# Altium integrated library Amplificador PH.IntLib: 27 symbols
Pins are listed as number, name and electrical type; pins without a type are passive.

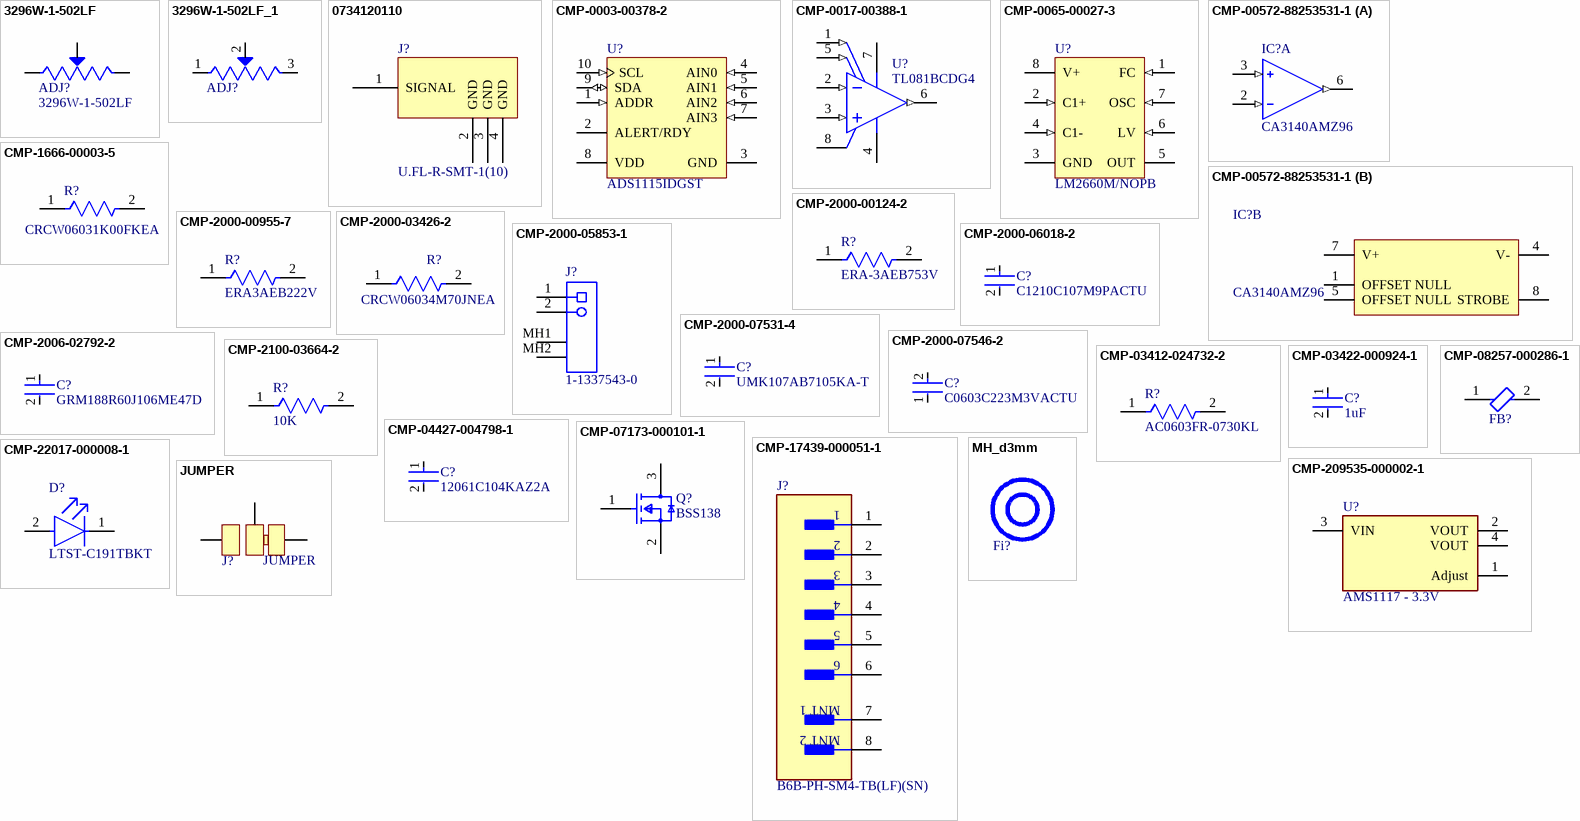
[diagram p0: symbols 3296W-1-502LF to MH_d3mm]

## 3296W-1-502LF
designator ADJ?
5 kOhms 0.5W, 1/2W PC Pins Through Hole Trimmer Potentiometer Cermet 25.0 Turn Top Adjustment; MF: Bourns; Value: 5k; SnapEDA_Link: https://www.snapeda.com/parts/3296W-1-502LF/Bourns/view-part/?ref=snap; MP: 3296W-1-502LF; Price: None; Package: SOT-23-5 Bourns; Check_prices: https://www.snapeda.com/parts/3296W-1-502LF/Bourns/view-part/?ref=eda; Purchase-URL: https://pricing.snapeda.com/search/part/3296W-1-502LF/?ref=eda; Availability: In Stock; ComponentLink1Description: MOUSER; ComponentLink1URL: https://co.mouser.com/ProductDetail/Bourns/3296W-1-502LF?qs=zl1BDXJPZVrTnesl5BcuCQ%3D%3D; Supplier 1: Digikey; Supplier Part Number 1: 3296W-502LF-ND; LCSC Part Number: C60620
footprint TRIM_3296W-1-502LF
pins: 1 CCW, 2 WIPER, 3 CW

## 3296W-1-502LF_1
designator ADJ?
100 kOhms 0.5W, 1/2W PC Pins Through Hole Trimmer Potentiometer Cermet 25.0 Turn Top Adjustment; MF: Bourns; MP: 3296W-1-502LF; Value: 100k; SnapEDA_Link: https://www.snapeda.com/parts/3296W-1-502LF/Bourns/view-part/?ref=snap; Price: None; Package: SOT-23-5 Bourns; Check_prices: https://www.snapeda.com/parts/3296W-1-502LF/Bourns/view-part/?ref=eda; Purchase-URL: https://pricing.snapeda.com/search/part/3296W-1-502LF/?ref=eda; Availability: In Stock; ComponentLink1Description: MOUSER; ComponentLink1URL: https://co.mouser.com/ProductDetail/Bourns/3296W-1-104ALF?qs=PYWKc%252BkzmhnUybN0QggnnQ%3D%3D; Supplier 1: Digikey; Supplier Part Number 1: 3296W-502LF-ND; LCSC Part Number: C48084
footprint TRIM_3296W-1-502LF
pins: 1 CCW, 2 WIPER, 3 CW

## 0734120110
designator J?, comment U.FL-R-SMT-1(10)
CONN UMC RCPT STR 50 OHM SMD; Manufacturer: Molex, LLC; Manufacturer Part Number: 0734120110; Connector Style: Ultra Miniature Coaxial; Connector Type: Receptacle, Male Pin; Contact Termination: Solder; Impedance: 50 Ohm; Body Material: Phosphor Bronze; Body Finish: Nickel; Center Contact Plating: Gold; Dielectric Material: Liquid Crystal Polymer (LCP); Center Contact Material: Brass; Mating Cycles: 30; Supplier 1: Digi-Key; RoHS: RoHS Compliant; Category: Connectors, Interconnects; Stock 1: 48500; Pricing 1: 1=0.73, 10=0.688, 25=0.6188, 50=0.5502, 100=0.5273, 250=0.4814, 500=0.45848, 1000=0.37825, 2500=0.34386 (USD); Packaging: Cut Tape (CT); Part Status: Active; Shield Termination: Solder; Mounting Type: Surface Mount; Mounting Feature: -; Cable Group: -; Fastening Type: Snap-On; Features: -; Housing Color: Silver; Ingress Protection: -; Includes: -; Operating Temperature: -40°C ~ 90°C; Insertion Loss: -; ComponentLink1URL: http://www.molex.com/pdm_docs/sd/734120110_sd.pdf; ComponentLink1Description: http://www.molex.com/pdm_docs/sd/734120110_sd.pdf; Supplier Part Number 1: WM5587CT-ND; LCSC Part Number: C88374
footprint 0734120110
footprint 0734120110
pins: 1 SIGNAL, 2 GND, 3 GND, 4 GND

## CMP-0003-00378-2
designator U?, comment ADS1115IDGST
16-Bit ADC with Integrated Multiplexer, PGA, Comparator, Oscillator, and Reference, -40 to 125 degC, 10-pin SOP (DGS10), Green (RoHS & no Sb/Br); Manufacturer: Texas Instruments; Sample Rate (max)(SPS): 860; SubFamily: Precision ADC (<=10MSPS); Architecture: Delta-Sigma; Digital Supply(Min)(V): 2; Resolution(Bits): 16; Digital Supply(Max)(V): 5.5; INL(Max)(+/-LSB): 1; Interface: Serial I2C; # Input Channels: 4; Eco-Plan: Green (RoHS & no Sb/Br); PackageDescription: 10-Pin Plastic Small Outline, Body 3 x 3 mm, Pitch 0.5 mm; Mounting Technology: Surface Mount; PackageReference: DGS10; DatasheetVersion: SBAS444B; ComponentLink3Description: Package Specification; ComponentLink1Description: Manufacturer URL; PartNumber: ADS1115IDGST; ComponentLink3URL: http://www.ti.com/lit/ml/mpds035b/mpds035b.pdf; ComponentLink2URL: http://www.ti.com/general/docs/lit/getliterature.tsp?genericPartNumber=ADS1115&fileType=pdf; Analog Voltage AV/DD(Min)(V): 2; ComponentLink2Description: Datasheet; PackageVersion: 4073272/C, 02/2004; Analog Voltage AV/DD(Max)(V): 5.5; Code_JEDEC: MO-153; ComponentLink1URL: http://www.ti.com/; ComponentLink4Description: MOUSER; ComponentLink4URL: https://co.mouser.com/ProductDetail/Texas-Instruments/ADS1115IDGST?qs=6805eV47HhY3JIwOhQ2zog%3D%3D; LCSC Part Number: C37593
footprint TI-DGS10_M (SOP, 10-Leads, Body 3x3mm, Pitch 0.5mm, IPC Low Density)
footprint TI-DGS10_N (SOP, 10-Leads, Body 3x3mm, Pitch 0.5mm, IPC Medium Density)
footprint TI-DGS10_L (SOP, 10-Leads, Body 3x3mm, Pitch 0.5mm, IPC High Density)
pins: 1 ADDR (in) "I2C slave address select", 2 ALERT/RDY (oc) "Digital comparator output or conversion ready", 3 GND (power) "Ground", 4 AIN0 (in) "Differential channel 1: Positive input or single-ended channel 1 input", 5 AIN1 (in) "Differential channel 1: Negative input or single-ended channel 2 input", 6 AIN2 (in) "Differential channel 2: Positive input or single-ended channel 3 input", 7 AIN3 (in) "Differential channel 2: Negative input or single-ended channel 4 input", 8 VDD (power) "Power supply: 2.0V to 5.5V", 9 SDA (io) "Serial data: Transmits and receives data", 10 SCL (in) "Serial clock input: Clocks data on SDA"

## CMP-0017-00388-1
designator U?, comment TL081BCDG4
JFET-Input Operational Amplifier, 7 to 36 V, 0 to 70 degC, 8-pin SOIC (D8), Green (RoHS & no Sb/Br); Manufacturer: Texas Instruments; GBW(Typ)(MHz): 3; Offset Drift(Typ)(uV/C): 18; Total Supply Voltage(Max)(+5V is 5, +/-5V is 10): 36; Slew Rate(Typ)(V/us): 13; CMRR(Min)(dB): 75; Sub Family: General Purpose Amplifier, High Supply Voltage Amplifier (>=30V); Iq per channel(Max)(mA): 2.8; IIB(Max)(pA): 200; Total Supply Voltage(Min)(+5V is 5, +/-5V is 10): 7; Rating: Catalog; Number of Channels: 1; ComponentLink1URL: http://www.ti.com/; Vn at 1kHz(Typ)(nV/rtHz): 18; ComponentLink2Description: Datasheet; ComponentLink1Description: Manufacturer URL; Eco-Plan: Green (RoHS & no Sb/Br); PackageReference: D8; PartNumber: TL081BCDG4; ComponentLink3URL: http://www.ti.com/litv/pdf/msoi002j; Code_JEDEC: MS-012; DatasheetVersion: SLOS081G; ComponentLink2URL: http://www.ti.com/lit/ds/symlink/tl081b.pdf; ComponentLink3Description: Package Specification; PackageDescription: 8-Pin Plastic Small Outline, Body 4.9 x 3.9 mm, Pitch 1.27 mm; PackageVersion: 4040047-3/M, 06/2011; Mounting Technology: Surface Mount; Vio (25C)(Max)(mV): 3; ComponentLink4Description: MOUSER; ComponentLink4URL: https://co.mouser.com/ProductDetail/Texas-Instruments/TL081BCD?qs=odmYgEirbwwOtgI7tvPDqA%3D%3D; LCSC Part Number: C4370484
footprint TI-D8_M (SOIC, 8-Leads, Body 4.9x3.9mm, Pitch 1.27mm, IPC Low Density)
footprint TI-D8_N (SOIC, 8-Leads, Body 4.9x3.9mm, Pitch 1.27mm, IPC Medium Density)
footprint TI-D8_L (SOIC, 8-Leads, Body 4.9x3.9mm, Pitch 1.27mm, IPC High Density)
pins: 1 OFFSET N1 (in), 2 IN- (in), 3 IN+ (in), 4 VCC- (power), 5 OFFSET N2 (in), 6 OUT (out), 7 VCC+ (power), 8 NC

## CMP-0065-00027-3
designator U?, comment LM2660M/NOPB
Switched Capacitor Voltage Converter, 8-pin Narrow SOIC, Pb-Free; Manufacturer: Texas Instruments; PackageTopMarking: NSZXTT*LM26*60M; CompType: Switch Caps; PowerWise: N; PackageDescription: SOIC Narrow, 4.9 x 3.9 x 1.45mm, 8 Lead, 1.27mm Pitch; RoHS: Y; ComponentLink1URL: http://www.ti.com/general/docs/lit/getliterature.tsp?genericPartNumber=LM2660&fileType=pdf; Code_JEDEC: MS-012-AA; ComponentLink1Description: Datasheet URL; PackageReference: D0008A; PinCount: 8; Code_IPC: SOIC127P600-8; LCSC Part Number: C183083
footprint D0008A_M (SOIC, 8-Leads, Body 5x4mm, Pitch 1.27mm, IPC Low Density)
footprint D0008A_N (SOIC, 8-Leads, Body 5x4mm, Pitch 1.27mm, IPC Medium Density)
footprint D0008A_L (SOIC, 8-Leads, Body 5x4mm, Pitch 1.27mm, IPC High Density)
pins: 1 FC (in), 2 C1+ (in), 3 GND (power), 4 C1- (in), 5 OUT (power), 6 LV (in), 7 OSC (in), 8 V+ (power)

## CMP-00572-88253531-1
designator IC?, comment CA3140AMZ96
CA3140AMZ96 CA3140 Series 36 V 4.5 MHz BiMOS Operational Amplifier - SOIC-8; NexarPartId: 88253531; Bandwidth: 4.5MHz; Slew Rate: 9V/µs; Packaging: Cut Tape; RoHS: Compliant; ComponentLink1Description: MOUSER; ComponentLink1URL: https://co.mouser.com/ProductDetail/Renesas-Intersil/CA3140AMZ?qs=sGAEpiMZZMutXGli8Ay4kA%2FBPd2gF8jLlzpVi%252BTKdUc%3D; LCSC Part Number: C31540
footprint SOIC127P600X175-8N (ISL2110 Series 100 V 3 A / 4 A High Frequency Half-Bridge Driver - SOIC-8)
footprint SOIC127P600X175-8L (ISL2110 Series 100 V 3 A / 4 A High Frequency Half-Bridge Driver - SOIC-8)
footprint SOIC127P600X175-8M (ISL2110 Series 100 V 3 A / 4 A High Frequency Half-Bridge Driver - SOIC-8)
part A pins: 2 INV INPUT (in), 3 NON-INV INPUT (in), 6 OUTPUT (out)
part B pins: 1 OFFSET NULL, 4 V-, 5 OFFSET NULL, 7 V+, 8 STROBE

## CMP-1666-00003-5
designator R?, comment CRCW06031K00FKEA
RES Thick Film, 1kΩ, 1%, 0.1W, 100ppm/°C, 0603; Max Power Dissipation: 100mW; Voltage Rating: 75V; Resistance: 1kR; Max Operating Temperature: 155°C; Number of Pins: 2; Case Code (Imperial): 0603; Width: 0.033inch; Power Rating: 100mW; Number of Terminations: 2; Package Quantity: 10; Weight: 7.1E-05oz; Tolerance: 1%; Temperature Coefficient: 100ppm/°C; Military Standard: Not; Mount: Surface Mount; Voltage Rating (DC): 75V; Depth: 0.85mm; Composition: Thick Film; Radiation Hardening: No; Termination: SMD/SMT; Length: 1.55mm; Case Code (Metric): 1608; Contact Plating: Tin; Min Operating Temperature: -55°C; Packaging: Tape and Reel; Height: 0.45mm; Lead Free: Lead Free; Case/Package: 0603; Features: Automotive AEC-Q200; ComponentLink1Description: MOUSER; ComponentLink1URL: https://co.mouser.com/ProductDetail/Vishay-Dale/CRCW06031K00FKEA?qs=CToX950LohJasujQx7GY3g%3D%3D; LCSC Part Number: C22548
footprint FP-CRCW0603-e3-MFG
footprint FP-CRCW0603-e3-IPC_A
footprint FP-CRCW0603-e3-IPC_C
footprint FP-CRCW0603-e3-IPC_B
pins: 1, 2

## CMP-2000-00124-2
designator R?, comment ERA-3AEB753V
RES SMD 75K OHM 0.1% 1/10W 0603; Manufacturer: Panasonic; Voltage Rating: 75V; Resistance: 75kΩ; Power Rating: 0.1W; Automotive Grade: Grade 0; Value: 75kΩ; Temperature Coefficient: 25ppm/°C; Ipc Land Pattern Name: RESC16080X45; Device Class L3: Chip SMD Resistors; Composition: Metal Film; Footprint Url: https://industrial.panasonic.com/cdbs/www-data/pdf/RDM0000/DMM0000COL17.pdf; Temperature: -55°C to +155°C; Automotive: Yes; Lead Free: Yes; Device Class L2: Resistors; Package: ERA3A; Octopart: https://octopart.com/era-3aeb753v-panasonic-1225046; Device Class L1: Passive Components; ComponentLink2Description: Datasheet; Temperature Range Low: -55°C; Series: ERA; ComponentLink2URL: https://industrial.panasonic.com/cdbs/www-data/pdf/RDM0000/AOA0000C307.pdf; Manufacturer Part Number: ERA-3AEB753V; RoHS: TRUE; Temperature Range High: +155°C; Category: Res; Height: 0.55mm; Digikey Description: RES SMD 75K OHM 0.1% 1/10W 0603; Tolerance: 0.1%; Mouser Description: Thin Film Resistors - SMD 0603 1/10W 75Kohms; ComponentLink3Description: MOUSER; ComponentLink3URL: https://co.mouser.com/ProductDetail/Panasonic/ERA-3AEB753V?qs=XhO1W%252B5LdJ8bZAal2NqsiA%3D%3D; LCSC Part Number: C855956
footprint FP-ERA3A-MFG
footprint FP-ERA3A-IPC_C
footprint FP-ERA3A-IPC_B
footprint FP-ERA3A-IPC_A
pins: 1, 2

## CMP-2000-00955-7
designator R?, comment ERA3AEB222V
RES SMD 2.2K OHM 0.1% 1/10W 0603; Power Rating: 100mW; Resistance: 2.2kR; Voltage Rating (DC): 75V; Temperature Coefficient: 25ppm/°C; Case/Package: 0603; Number of Pins: 2; Length: 1.6mm; Width: 0.8mm; RoHS Compliant: Yes; Lead Free: Lead Free; Radiation Hardening: No; Mount: Surface Mount; Max Power Dissipation: 100mW; Package Quantity: 5000; Height: 0.45mm; Series: ERA-3A; Reach SVHC Compliant: Yes; Features: Automotive AEC-Q200; Case Code (Imperial): 0603; Packaging: Tape and Reel; Construction: Rectangular; Case Code (Metric): 1608; Technology: METAL FILM; Ratings: AEC-Q200; Termination: SMD/SMT; Max Operating Temperature: 155°C; Depth: 0.8mm; Resistor Type: Thin Film; Tolerance: 0.1%; Military Standard: Not; Resistance Tolerance: 0.1%; Contact Plating: Tin; Number of Terminations: 2; Min Operating Temperature: -55°C; Size Code: 0603; Voltage Rating: 75V; ComponentLink1Description: MOUSER; ComponentLink1URL: https://co.mouser.com/ProductDetail/Panasonic/ERA-3AEB222V?qs=1VWA5LkbEaoeuphfROnEEQ%3D%3D; LCSC Part Number: C858962
footprint FP-ERA3A-MFG
footprint FP-ERA3A-IPC_B
footprint FP-ERA3A-IPC_C
footprint FP-ERA3A-IPC_A
pins: 1, 2

## CMP-2000-03426-2
designator R?, comment CRCW06034M70JNEA
RES Thick Film, 4.7MΩ, 5%, 0.1W, 200ppm/°C, 0603; Voltage Rating (DC): 75V; Resistance: 4.7MR; Power Rating: 100mW; Features: Automotive AEC-Q200; Number of Terminations: 2; Case Code (Metric): 1608; Case/Package: 0603; Composition: Thick Film; Min Operating Temperature: -55°C; Tolerance: 5%; Height: 0.45mm; Width: 0.033inch; Depth: 0.85mm; Length: 1.55mm; Military Standard: Not; Case Code (Imperial): 0603; Radiation Hardening: No; Temperature Coefficient: 200ppm/°C; Weight: 7.1E-05oz; Number of Pins: 2; Voltage Rating: 75V; Termination: Solder; Contact Plating: Tin; Package Quantity: 1; Max Operating Temperature: 155°C; Lead Free: Lead Free; Packaging: Tape and Reel; Max Power Dissipation: 100mW; ComponentLink1Description: MOUSER; ComponentLink1URL: https://co.mouser.com/ProductDetail/Vishay-Dale/CRCW06034M70JNEAC?qs=E3Y5ESvWgWPbc3YKTOCygQ%3D%3D; LCSC Part Number: C227938
footprint FP-CRCW0603-e3-MFG
footprint FP-CRCW0603-e3-IPC_A
footprint FP-CRCW0603-e3-IPC_C
footprint FP-CRCW0603-e3-IPC_B
pins: 1, 2

## CMP-2000-05853-1
designator J?, comment 1-1337543-0
Female Connector, Pitch 2.54 mm, 1 x 2 Position, Height 15.8 mm, Tail Length 3.8 mm, / -55 to 85 degC, RoHS, Bulk; Manufacturer: TE Connectivity; Connector Body Style: RightAngleJack; Frequency Max: 4GHz; Coaxial Termination: Solder; Connector Mounting: PCBMount; SVHC: ToBeAdvised; Connector Type: BNCCoaxial; Impedance: 50ohm; Coaxial Cable Types: -; Manufacturer URL: http://www.te.com/; Package Reference: 1-1337543-0; Product Range: -; Datasheet URL: http://www.te.com/commerce/DocumentDelivery/DDEController?Action=showdoc&DocId=Customer+Drawing%7F1337543%7FG%7Fpdf%7FEnglish%7FENG_CD_1337543_G.pdf%7F1-1337543-0; Contact Plating: GoldPlatedContacts; Mounting Technology: ThroughHole; Package Description: Female Connector, Pitch 2.54 mm, 1 x 2 Position, Height 15.8 mm, Tail Length 3.8 mm; Contact Material: Brass; Datasheet Version: Rev. G, 12/2012; ComponentLink1Description: MOUSER; ComponentLink1URL: https://co.mouser.com/ProductDetail/TE-Connectivity-AMP/1-1337543-0?qs=C39VGJgkyqP7s5Z2V1r6VA%3D%3D; LCSC Part Number: C2837588
footprint TECO-1-1337543-0_V (SMD, 2-Leads, Body 34.9x14.7mm, Pitch 2.54mm)
pins: 1, 2, MH1, MH2

## CMP-2000-06018-2
designator C?, comment C1210C107M9PACTU
CAP CER 100UF 6.3V X5R 1210; Dissipation Factor: 5%; Dielectric Material: Ceramic; Tolerance: 20%; Termination: SMD/SMT; REACH SVHC: No SVHC; Thickness: 0.11inch; Packaging: Tape and Reel; Series: C; Width: 2.5mm; Voltage Rating (DC): 6.3V; Voltage: 6.3V; Contact Plating: Tin; Package Quantity: 1; Case/Package: 1210; Min Operating Temperature: -55°C; Height: 2.5mm; Radiation Hardening: No; Capacitance: 100uF; Case Code (Metric): 3225; Depth: 2.5mm; Construction: Flat; Max Operating Temperature: 85°C; Number of Pins: 2; Mount: Surface Mount; Lead Free: Lead Free; RoHS Compliant: Yes; Voltage Rating: 6.3V; Dielectric: X5R; Length: 3.2mm; Case Code (Imperial): 1210; LCSC Part Number: C23742
footprint FP-C1210C107M9PACTU-MFG
footprint FP-C1210C107M9PACTU-IPC_C
footprint FP-C1210C107M9PACTU-IPC_B
footprint FP-C1210C107M9PACTU-IPC_A
pins: 1, 2

## CMP-2000-07531-4
designator C?, comment UMK107AB7105KA-T
Ceramic Capacitor General Use 1uF ±10% 50V X7R 0603; Series: M; Width: 0.031inch; Mount: Surface Mount; Radiation Hardening: No; Voltage Rating (DC): 50V; Packaging: Tape and Reel; Termination: SMD/SMT; Depth: 0.8mm; Case Code (Metric): 1608; Case Code (Imperial): 0603; Height: 0.8mm; Voltage Rating: 50V; Package Quantity: 1; Halogen Free: Halogen Free; Dielectric: X7R; Min Operating Temperature: -55°C; Length: 1.6mm; Construction: Flat; Tolerance: 10%; Thickness: 0.037inch; Max Operating Temperature: 125°C; Case/Package: 0603; Capacitance: 1uF; RoHS Compliant: Yes; LCSC Part Number: C15849
footprint FP-0603-L_1_6_0_15-W_0_8-IPC_C
footprint FP-0603-L_1_6_0_15-W_0_8-MFG
footprint FP-0603-L_1_6_0_15-W_0_8-IPC_A
footprint FP-0603-L_1_6_0_15-W_0_8-IPC_B
pins: 1, 2

## CMP-2000-07546-2
designator C?, comment C0603C223M3VACTU
Cap Ceramic 100nF 50V X7R 10% Pad SMD 0603 +125°C Automotive T/R; Weight: 7.1E-05oz; Composition: Ceramic; Max Operating Temperature: 125°C; Termination: SMD/SMT; Dielectric: X7R; Length: 1.6mm; Package Quantity: 1; REACH SVHC: No SVHC; Lead Free: Lead Free; Case Code (Metric): 1608; Min Operating Temperature: -55°C; Packaging: Tape and Reel; Tolerance: 10%; Voltage Rating: 50V; Case Code (Imperial): 0603; Capacitance: 100nF; Case/Package: 0603; Voltage Rating (DC): 50V; Depth: 0.8mm; Radiation Hardening: No; Ratings: AEC-Q200; Mount: Surface Mount; Voltage: 50V; Thickness: 0.035inch; Width: 0.8mm; Height: 0.8mm; LCSC Part Number: C1591
footprint FP-CGA3E-0_3-0_1-IPC_A
footprint FP-CGA3E-0_3-0_1-IPC_C
footprint FP-CGA3E-0_3-0_1-IPC_B
footprint FP-CGA3E-0_3-0_1-MFG
footprint FP-C0603C-CF-MFG
pins: 1, 2

## CMP-2006-02792-2
designator C?, comment GRM188R60J106ME47D
Chip Multilayer Ceramic Capacitors for General Purpose, 0603, 10uF, X5R, 15%, 20%, 6.3V; Packaging: Tape and Reel; Voltage Rating (DC): 6.3V; Width: 0.031inch; Termination: SMD/SMT; Dielectric: X5R; Package Quantity: 4000; Voltage Rating: 6.3V; Capacitance: 10uF; Case/Package: 0603; Min Operating Temperature: -55°C; Voltage: 6.3V; Length: 1.6mm; Thickness: 0.035inch; Lead Free: Lead Free; Depth: 0.8mm; Case Code (Imperial): 0603; Max Operating Temperature: 85°C; Material: Ceramic; Height: 0.8mm; Tolerance: 20%; Mount: Surface Mount; REACH SVHC: No SVHC; Radiation Hardening: No; Case Code (Metric): 1608; ComponentLink1Description: MOUSER; ComponentLink1URL: https://co.mouser.com/ProductDetail/Murata-Electronics/GRM188R60J106ME47D?qs=5VWgUag8BO1qcafxYhmP3g%3D%3D; LCSC Part Number: C19702
footprint FP-GRM188-0_1-e0_2_0_55-IPC_A
footprint FP-GRM188-0_1-e0_2_0_55-IPC_C
footprint FP-GRM188-0_1-e0_2_0_55-MFG
footprint FP-GRM188-0_1-e0_2_0_55-IPC_B
pins: 1, 2

## CMP-2100-03664-2
designator R?, comment 10K
RES 10K OHM 1% 1/10W 0603; Voltage Rating: 75V; Voltage Rating (DC): 50V; Resistance: 10kR; Power Rating: 100mW; Temperature Coefficient: 100ppm/°C; Depth: 0.8mm; Termination: SMD/SMT; Resistor Type: Thick Film; Series: RC; Construction: Rectangular; Features: Moisture Resistant; Packaging: Tape and Reel; Min Operating Temperature: -55°C; Number of Terminations: 2; Lead Pitch: 0.3mm; RoHS Compliant: Yes; Case/Package: 0603; Resistance Tolerance: 1%; Military Standard: Not; Weight: 7.1E-05oz; Number of Pins: 2; Tolerance: 1%; Length: 1.6mm; Case Code (Imperial): 0603; Lead Free: Lead Free; Width: 0.8mm; Max Power Dissipation: 100mW; Height: 0.45mm; Max Operating Temperature: 155°C; Case Code (Metric): 1608; Size Code: 0603; LCSC Part Number: C98220
footprint FP-RC0603-0_55-IPC_C
footprint FP-RC0603-0_55-IPC_B
footprint FP-RC0603-0_55-MFG
footprint FP-RC0603-0_55-IPC_A
pins: 1, 2

## CMP-03412-024732-2
designator R?, comment AC0603FR-0730KL
RES 30KΩ 1.00% 0.1W 0603; Resistance: 30kR; Tolerance: 1%; Power Rating: 100mW; Temperature Coefficient: 100ppm/°C; Voltage Rating: 50V; Number of Terminations: 2; Series: AC; Packaging: Tape and Reel; Resistor Type: Thick Film; Min Operating Temperature: -55°C; Case Code (Imperial): 0603; Termination: SMD/SMT; Max Operating Temperature: 155°C; Ratings: AEC-Q200; Case Code (Metric): 1608; Features: Moisture Resistant; Case/Package: 0603; Max Power Dissipation: 100mW; Width: 0.8mm; Height: 0.45mm; Length: 1.6mm; ComponentLink1Description: MOUSER; ComponentLink1URL: https://co.mouser.com/ProductDetail/YAGEO/AC0603FR-0730KL?qs=yhV1fb9g%2FKYTcglclJn56g%3D%3D; LCSC Part Number: C113302
footprint FP-AC0603-IPC_C
footprint FP-AC0603-IPC_A
footprint FP-AC0603-IPC_B
footprint FP-AC0603-MFG
pins: 1, 2

## CMP-03422-000924-1
designator C?, comment 1uF
CAP CER 1UF 16V X7R 0603; Manufacturer: YAGEO; Manufacturer Part Number: CC0603KRX7R7BB105; Tolerance: 0.1; Temperature Coefficient: 15%; Material: Ceramic; Package: CC0603-DA; RoHS: TRUE; Device Class L2: Capacitors; Temperature Characteristic: X7R; Temperature: -55°C to +125°C; Temperature Range Low: -55°C; Automotive: No; ComponentLink2Description: Datasheet; Value: 1 uF; Lead Free: Yes; Capacitance: 1 uF; ComponentLink2URL: http://www.yageo.com/documents/recent/UPY-GPHC_X7R_6.3V-to-50V_18.pdf; Device Class L1: Passive Components; Voltage: 16 V; Octopart: https://octopart.com/cc0603krx7r7bb105-yageo-42271928; Category: Cap; Digikey Description: CAP CER 1UF 16V X7R 0603; Footprint Url: http://www.yageo.com/exep/pages/download/literatures/UPY-C_GEN_24.pdf; Height: 0.9mm; Voltage Rating: 16 V; Temperature Range High: +125°C; Mouser Description: Multilayer Ceramic Capacitor, CC Series, 1 - F, - 10%, X7R, 16 V, 0603 [1608 Metric]; Device Class L3: Ceramic Capacitors; LCSC Part Number: C15849
footprint FP-CC0603-DA-MFG
footprint FP-CC0603-DA-IPC_C
footprint FP-CC0603-DA-IPC_B
footprint FP-CC0603-DA-IPC_A
pins: 1, 2

## CMP-04427-004798-1
designator C?, comment 12061C104KAZ2A
General Purpose Ceramic Capacitor, 1206, 100nF, 10%, X7R, 15%, 100V; Features: Soft Termination; Termination: SMD/SMT; Mount: Surface Mount; Tolerance: 10%; Voltage Rating: 100V; Length: 3.2mm; Case/Package: 1206; Case Code (Metric): 3216; RoHS Compliant: Yes; Package Quantity: 1; Max Operating Temperature: 125°C; Voltage Rating (DC): 100V; Min Operating Temperature: -55°C; Number of Pins: 2; Packaging: Tape and Reel; Width: 0.063inch; REACH SVHC: No SVHC; Lead Free: Lead Free; Construction: Flat; Capacitance: 100nF; Radiation Hardening: No; Case Code (Imperial): 1206; Thickness: 0.05inch; Series: FLEXITERM®; Depth: 1.6mm; Dielectric: X7R; ComponentLink1Description: MOUSER; ComponentLink1URL: https://co.mouser.com/ProductDetail/KYOCERA-AVX/12061C104KAZ2A?qs=DFzMtgyOV7er0SHzcpdifw%3D%3D; LCSC Part Number: C726629
footprint FP-1206-L_3_2_0_2-W_1_6_0-MFG
footprint FP-1206-L_3_2_0_2-W_1_6_0-IPC_A
footprint FP-1206-L_3_2_0_2-W_1_6_0-IPC_C
footprint FP-1206-L_3_2_0_2-W_1_6_0-IPC_B
pins: 1, 2

## CMP-07173-000101-1
designator Q?, comment BSS138
MOSFET N-CH 50V 220MA SOT-23; Turn-Off Delay Time: 20ns; Element Configuration: Single; Rds On Max: 3.5R; Gate to Source Voltage (Vgs): 20V; Threshold Voltage: 1.3V; Number of Elements: 1; Power Dissipation: 360mW; Rise Time: 9ns; Turn-On Delay Time: 2.5ns; Input Capacitance: 27pF; On-State Resistance: 6R; Lead Free: Lead Free; Length: 2.92mm; Width: 1.3mm; Drain to Source Breakdown Voltage: 50V; Min Operating Temperature: -55°C; REACH SVHC: No SVHC; Packaging: Tape and Reel; Radiation Hardening: No; Height: 0.93mm; Drain to Source Voltage (Vdss): 50V; Current Rating: 220mA; Voltage Rating (DC): 50V; Weight: 0.03g; Continuous Drain Current (ID): 220mA; Number of Pins: 3; Nominal Vgs: 1.3V; Max Power Dissipation: 360mW; Fall Time: 9ns; Drain to Source Resistance: 3.5R; Contact Plating: Tin; Case/Package: SOT-23; Package Quantity: 1; Dual Supply Voltage: 50V; Mount: Surface Mount; Termination: SMD/SMT; Max Operating Temperature: 150°C; LCSC Part Number: C18195371
footprint FP-318-08-IPC_B
footprint FP-318-08-MFG
footprint FP-318-08-IPC_A
footprint FP-318-08-IPC_C
pins: 1 G, 2 S, 3 D

## CMP-08257-000286-1
designator FB?, comment MMZ2012Y152BT000  (value not drawn)
Signal Line Ferrite Bead 1500Ω @ 100Mhz 500mA DCR 400mΩ SMD 0805; DC Resistance (DCR): 400mR; Impedance: 1.5kR; Current Rating: 500mA; Length: 0.079inch; Width: 0.049inch; Height: 0.041inch; Package Quantity: 4000; Series: MMZ; RoHS Compliant: Yes; Packaging: Cut Tape; Case Code (Metric): 2012; Case Code (Imperial): 0805; Max DC Current: 500mA; Case/Package: 0805; REACH SVHC: No SVHC; Mount: Surface Mount; LCSC Part Number: C275472
footprint FP-MMZ2012-IPC_A
footprint FP-MMZ2012-IPC_C
footprint FP-MMZ2012-MFG
footprint FP-MMZ2012-IPC_B
pins: 1, 2

## CMP-17439-000051-1
designator J?, comment B6B-PH-SM4-TB(LF)(SN)
CONN HEADER SMD 6POS 2MM; Number of Positions: 6; Working Voltage: 100V; Contact Resistance: 10mR; Insulation Resistance: 1GR; Current Rating: 2A; Mated Stacking Heights: 8.6mm; Gender: Male; Max Operating Temperature: 85°C; Contact Finish - Mating: TIN; Min Operating Temperature: -25°C; Height: 9.4mm; Contact Plating: Tin; Number of Poles: 6; Series: PH; Number of Rows: 1; Termination: Solder; Packaging: Tape and Reel; Contact Mating Length: 0.13inch; Voltage Rating (AC): 100V; Insulation Height: 0.26inch; Mount: Surface Mount; Contact Material: Copper Alloy; Length: 13.9mm; Contact Shape: Square; Flammability Rating: UL94 V-0; Voltage Rating: 100V; Contact Type: Male Pin; Connector Type: Header; Lead Pitch: 2mm; Housing Color: Natural; Color: Natural; Insulation Material: Nylon; Insulation Color: Natural; REACH SVHC: No SVHC; Housing Material: Nylon; Pitch: 2mm; Fastening Type: Detent; Orientation: Straight; Lead Free: Lead Free; Width: 5.5mm; Number of Contacts: 6
footprint FP-B6B-PH-SM4-TB_LF_SN-MFG
pins: 1, 2, 3, 4, 5, 6, 7 MNT 1, 8 MNT 2

## CMP-22017-000008-1
designator D?, comment LTST-C191TBKT
LED BLUE CLEAR CHIP SMD; Lens Color: Colorless; Dominant Wavelength: 475nm; Forward Current: 20mA; Wavelength: 468nm; Viewing Angle: 130°; Power Dissipation: 76mW; Luminous Intensity: 180mcd; Reverse Voltage: 5V; Number of Elements: 1; Lens Style: Diffused; Forward Voltage: 3.8V; Max Power Dissipation: 75mW; Case Code (Metric): 1608; Packaging: Tape and Reel; Case/Package: 0603; Depth: 1.6mm; Mount: Surface Mount; Lead Free: Lead Free; Min Operating Temperature: -20°C; Lens Transparency: Clear; Illumination Color: Blue; Height: 0.55mm; Test Current: 20mA; Case Code (Imperial): 0603; Max Operating Temperature: 80°C; Number of Pins: 2; Length: 0.8mm; Radiation Hardening: No; Package Quantity: 1; Number of LEDs: 1; Width: 0.8mm; Color: Blue; ComponentLink1Description: MOUSER; ComponentLink1URL: https://co.mouser.com/ProductDetail/Lite-On/LTST-C191TBKT?qs=dmW16TmpDgF%252B6HWuTmCtcw%3D%3D; LCSC Part Number: C99290
footprint FP-LTST-C191TBKT-MFG
pins: 1 C, 2 A

## CMP-209535-000002-1
designator U?, comment AMS1117 - 3.3V
1A LOW DROPOUT VOLTAGE REGULATOR; RoHS Compliant: Yes; LCSC Part Number: C5250992
footprint FP-ams1117-IPC_C
footprint FP-ams1117-IPC_B
footprint FP-ams1117-IPC_A
pins: 1 Adjust, 2 VOUT, 3 VIN (power), 4 VOUT

## JUMPER
designator J?  (no BOM)
footprint PCBComponent_1
footprint PCBComponent_1
footprint Jumper 3 Pin
pins: 1, 2, 3

## MH_d3mm
designator Fi?, comment HOLE  (value not drawn)  (no BOM)
hole diamenter 4.2 mm
footprint FIDUCIAL_TEST_PCB_2C (Fiducial Test PCB 2 Capas)